# Altium schematic symbol library H11L1.SchLib: 1 symbol
Pins are listed as number, name and electrical type; pins without a type are passive.

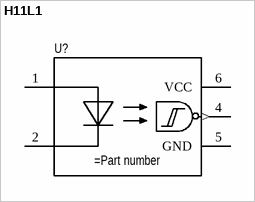
[diagram p0: symbol H11L1]

## H11L1
designator U?
Optoisolator
pins: 1 A, 2 C, 4 VOUT (out), 5 GND, 6 VCC